# EAGLE library part PICAXE-08M2 (library RONJA)
Mikrokontrolér PICAXE 08M2
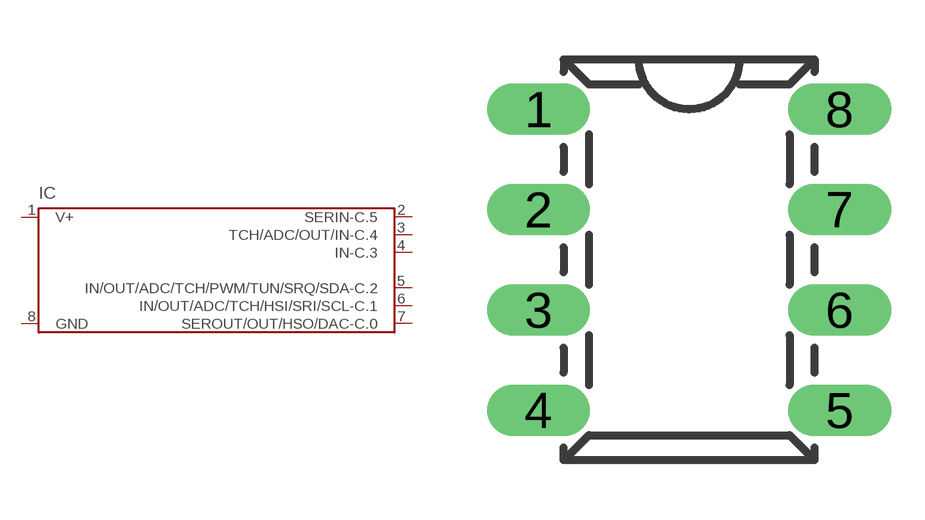
[diagram p0: symbol with the pads of DIL8; footprint DIL8]

Designator prefix IC

## PICAXE-08M2-DIL  [DIL8]
1  V+  pwr
2  SERIN-C.5  in
3  TCH/ADC/OUT/IN-C.4
4  IN-C.3  in
5  IN/OUT/ADC/TCH/PWM/TUN/SRQ/SDA-C.2
6  IN/OUT/ADC/TCH/HSI/SRI/SCL-C.1
7  SEROUT/OUT/HSO/DAC-C.0  out
8  GND  pwr

## Footprint DIL8 (pad centres in mm)
drill 0.8 pad 1.27 long: 1 -3.81,3.81; 2 -3.81,1.27; 3 -3.81,-1.27; 4 -3.81,-3.81; 5 3.81,-3.81; 6 3.81,-1.27; 7 3.81,1.27; 8 3.81,3.81